# Altium footprint library footprints.PcbLib: 70 footprints (part 3 of 5)
Each footprint in its own frame and in the unit in brackets; x right, y up, seen from the top. Pads: shape width x height; smd on the part's side, far side on the other; paste and mask are expansions set on the pad; w line width, h text height; cw(c..) or ccw(c..) is an arc to the next point about the centre after c.
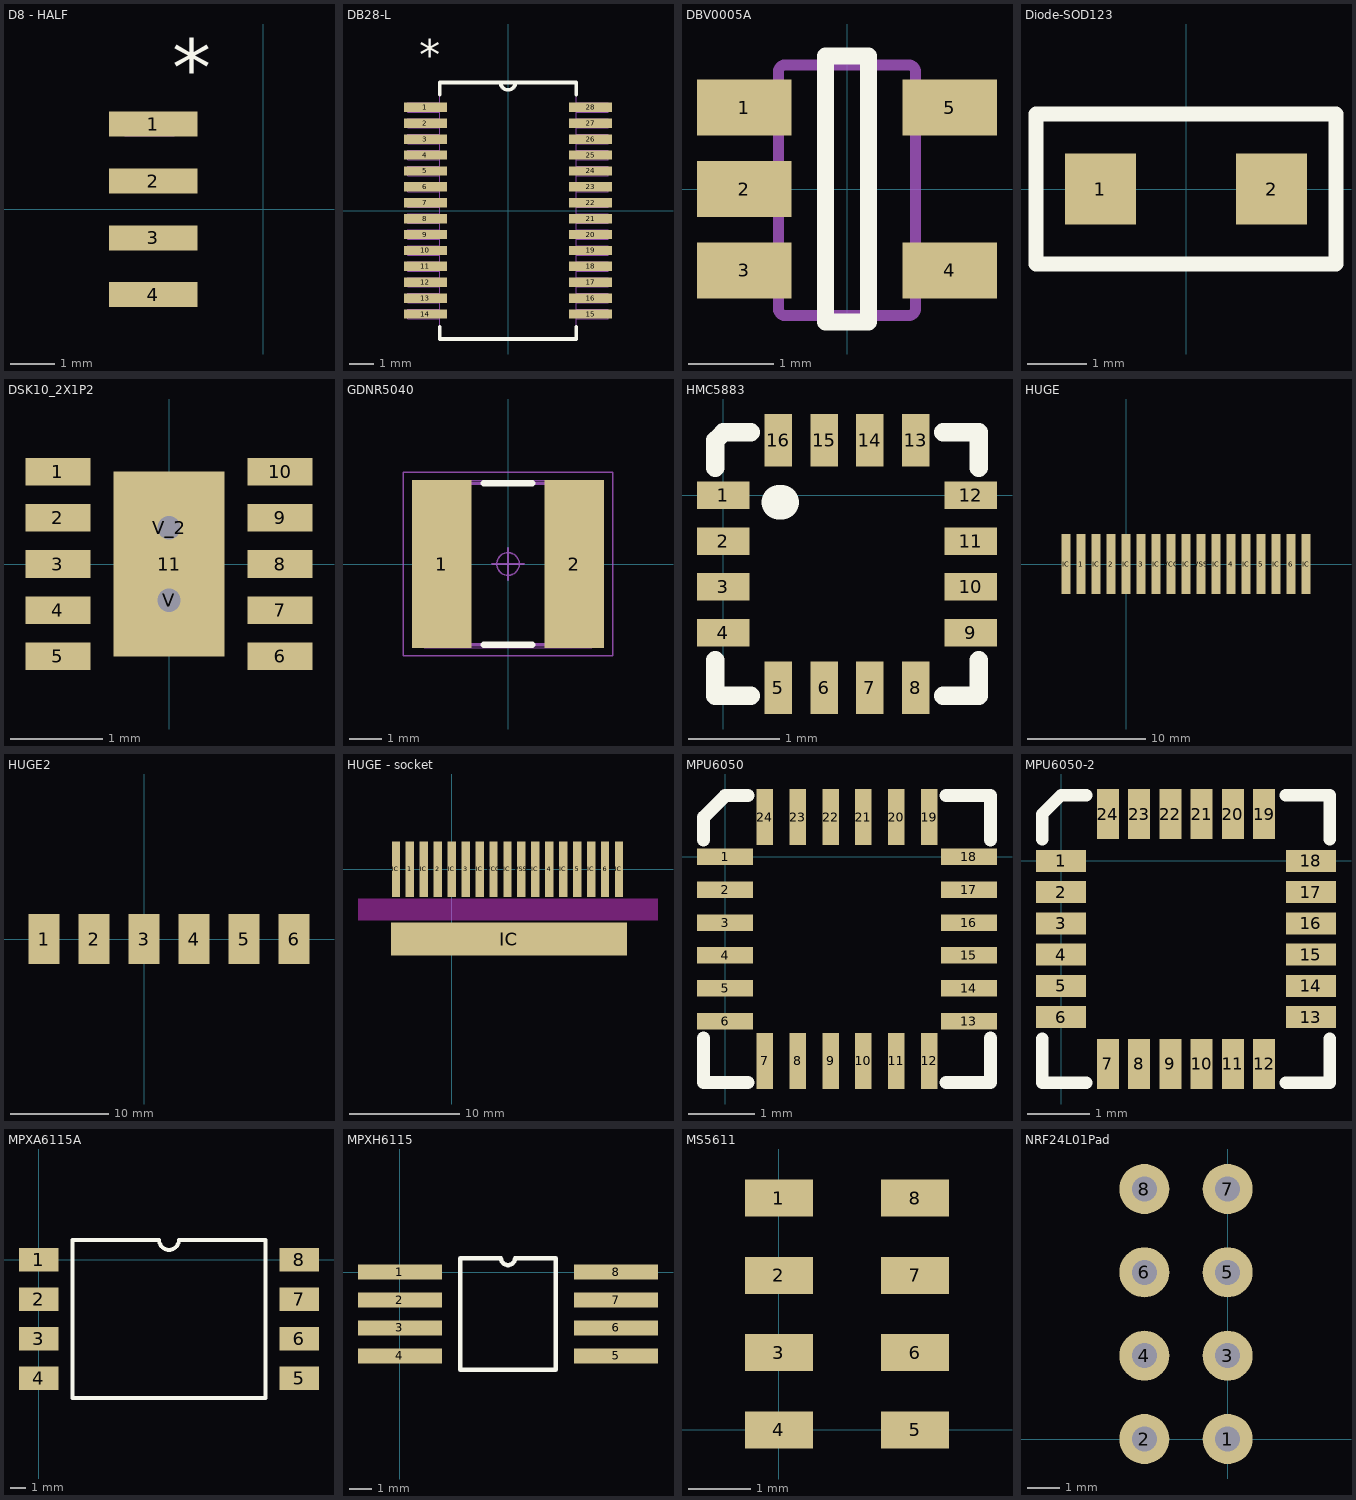
[diagram p2: the footprints below, top view; thin cyan lines are the x and y axes]

## D8 - HALF [mil]
pads (4):
  rect 78x22 smd: 1(-97,75) 2(-97,25) 3(-97,-25) 4(-97,-75)
Top Overlay:
  text "*" at -80,100 h50
Mechanical 1:
  lines w0: -78.5,-85 -122,-85 -122,-65 -78.5,-65 ; -78.5,-35 -122,-35 -122,-15 -78.5,-15 ; -78.5,15 -122,15 -122,35 -78.5,35 ; -78.5,65 -122,65 -122,85 -78.5,85

## DB28-L [mil]
pads (28):
  rect 69x15 smd: 1(-133,166.34) 2(-133,140.75) 3(-133,115.16) 4(-133,89.57) 5(-133,63.98) 6(-133,38.39) 7(-133,12.8) 8(-133,-12.8) 9(-133,-38.39) 10(-133,-63.98) 11(-133,-89.57) 12(-133,-115.16) 13(-133,-140.75) 14(-133,-166.34) 15(133,-166.34) 16(133,-140.75) 17(133,-115.16) 18(133,-89.57) 19(133,-63.98) 20(133,-38.39) 21(133,-12.8) 22(133,12.8) 23(133,38.39) 24(133,63.98) 25(133,89.57) 26(133,115.16) 27(133,140.75) 28(133,166.34)
Top Overlay:
  lines w6: -110,-186.94 -110,-206.5 110,-206.5 110,-186.94 ; -110,186.94 -110,206.5 110,206.5 110,186.94 ; -12,206.5 ccw(c0,206.5) 12,206.5
  text "*" at -143,226.34 h50
Mechanical 1:
  lines w0: -12,206.5 ccw(c0,206.5) 12,206.5 ; -161.5,-173.84 -110,-173.84 -110,-158.84 -161.5,-158.84 -161.5,-173.84 ; -161.5,-148.25 -110,-148.25 -110,-133.25 -161.5,-133.25 -161.5,-148.25 ; -161.5,-122.66 -110,-122.66 -110,-107.66 -161.5,-107.66 -161.5,-122.66 ; -161.5,-97.07 -110,-97.07 -110,-82.07 -161.5,-82.07 -161.5,-97.07 ; -161.5,-71.48 -110,-71.48 -110,-56.48 -161.5,-56.48 -161.5,-71.48 ; -161.5,-45.89 -110,-45.89 -110,-30.89 -161.5,-30.89 -161.5,-45.89 ; -161.5,-20.3 -110,-20.3 -110,-5.3 -161.5,-5.3 -161.5,-20.3 ; -161.5,5.3 -110,5.3 -110,20.3 -161.5,20.3 -161.5,5.3 ; -161.5,30.89 -110,30.89 -110,45.89 -161.5,45.89 -161.5,30.89 ; -161.5,56.48 -110,56.48 -110,71.48 -161.5,71.48 -161.5,56.48 ; -161.5,82.07 -110,82.07 -110,97.07 -161.5,97.07 -161.5,82.07 ; -161.5,107.66 -110,107.66 -110,122.66 -161.5,122.66 -161.5,107.66 ; -161.5,133.25 -110,133.25 -110,148.25 -161.5,148.25 -161.5,133.25 ; -161.5,158.84 -110,158.84 -110,173.84 -161.5,173.84 -161.5,158.84 ; -110,-206.5 -110,206.5 110,206.5 110,-206.5 -110,-206.5 ; 110,-173.84 161.5,-173.84 161.5,-158.84 110,-158.84 110,-173.84 ; 110,-148.25 161.5,-148.25 161.5,-133.25 110,-133.25 110,-148.25 ; 110,-122.66 161.5,-122.66 161.5,-107.66 110,-107.66 110,-122.66 ; 110,-97.07 161.5,-97.07 161.5,-82.07 110,-82.07 110,-97.07 ; 110,-71.48 161.5,-71.48 161.5,-56.48 110,-56.48 110,-71.48 ; 110,-45.89 161.5,-45.89 161.5,-30.89 110,-30.89 110,-45.89 ; 110,-20.3 161.5,-20.3 161.5,-5.3 110,-5.3 110,-20.3 ; 110,5.3 161.5,5.3 161.5,20.3 110,20.3 110,5.3 ; 110,30.89 161.5,30.89 161.5,45.89 110,45.89 110,30.89 ; 110,56.48 161.5,56.48 161.5,71.48 110,71.48 110,56.48 ; 110,82.07 161.5,82.07 161.5,97.07 110,97.07 110,82.07 ; 110,107.66 161.5,107.66 161.5,122.66 110,122.66 110,107.66 ; 110,133.25 161.5,133.25 161.5,148.25 110,148.25 110,133.25 ; 110,158.84 161.5,158.84 161.5,173.84 110,173.84 110,158.84
  text "*" at -143,226.34 h50

## DBV0005A [mm]
pads (5):
  rect 1.1x0.65 smd paste-0.102 mask+0.051: 1(-1.2,0.95) 2(-1.2,0) 3(-1.2,-0.95) 4(1.2,-0.95) 5(1.2,0.95)
Top Overlay:
  lines w0.2: -0.25,-1.55 0.25,-1.55 0.25,1.55 -0.25,1.55 -0.25,-1.55
Mechanical 1:
  lines w0.127: -0.801,1.371 cw(c-0.725,1.37) -0.725,1.446 ; -0.801,1.37 -0.801,-1.399 -0.801,-1.4 ccw(c-0.725,-1.399) -0.725,-1.475 ; -0.801,1.37 -0.801,1.371 ; -0.725,-1.475 -0.725,-1.475 ; -0.725,-1.475 0.723,-1.475 0.724,-1.475 ccw(c0.723,-1.399) 0.799,-1.4 0.799,-1.399 0.799,1.37 ; -0.725,1.446 0.723,1.446 0.724,1.446 cw(c0.723,1.37) 0.799,1.371 ; -0.725,1.446 -0.725,1.446 ; 0.799,1.37 0.799,1.371 ; -1.423,-1.167 -1.199,-1.167 -1.105,-1.167 -1.088,-1.167 -0.835,-1.167 -0.801,-1.167 -0.801,-0.767 -0.835,-0.767 -1.088,-0.767 -1.105,-0.767 -1.199,-0.767 -1.423,-0.767 -1.423,-1.167 ; -1.423,-0.215 -1.199,-0.215 -1.105,-0.215 -1.088,-0.215 -0.835,-0.215 -0.801,-0.215 -0.801,0.186 -0.835,0.186 -1.088,0.186 -1.105,0.186 -1.199,0.186 -1.423,0.186 -1.423,-0.215 ; -1.423,0.738 -1.199,0.738 -1.105,0.738 -1.088,0.738 -0.835,0.738 -0.801,0.738 -0.801,1.138 -0.835,1.138 -1.088,1.138 -1.105,1.138 -1.199,1.138 -1.423,1.138 -1.423,0.738 ; 0.799,-1.167 0.799,-0.767 0.834,-0.767 1.087,-0.767 1.103,-0.767 1.198,-0.767 1.422,-0.767 1.422,-1.167 1.198,-1.167 1.103,-1.167 1.087,-1.167 0.834,-1.167 0.799,-1.167 ; 0.799,0.738 0.799,1.138 0.834,1.138 1.087,1.138 1.103,1.138 1.198,1.138 1.422,1.138 1.422,0.738 1.198,0.738 1.103,0.738 1.087,0.738 0.834,0.738 0.799,0.738

## Diode-SOD123 [mm]
pads (2):
  rect 1.2x1.2 smd: 1(-1.45,0) 2(1.45,0)
Top Overlay:
  lines w0.254: -2.54,-1.27 2.54,-1.27 2.54,1.27 -2.54,1.27 -2.54,-1.27

## DSK10_2X1P2 [mm]
pads (13):
  rect 0.704x0.3 smd paste-0.15: 1(-1.202,1) 2(-1.202,0.5) 3(-1.202,0) 4(-1.202,-0.5) 5(-1.202,-1) 6(1.202,-1) 7(1.202,-0.5) 8(1.202,0) 9(1.202,0.5) 10(1.202,1)
  rect 1.2x2 smd paste-0.987 mask-0.991: 11(0,0)
  round 0.508 / inner round 1.524 / far side round 0.508 hole 0.254: V(0,-0.394) V_2(0,0.394)
Top Paste:
  region: 0.525,-0.494 0.241,-0.494 0.1,-0.635 0.1,-0.925 0.525,-0.925
  region: 0.525,0.294 0.241,0.294 0.1,0.152 0.1,-0.152 0.241,-0.294 0.525,-0.294
  region: 0.525,0.925 0.1,0.925 0.1,0.635 0.241,0.494 0.525,0.494
  region: -0.241,-0.494 -0.525,-0.494 -0.525,-0.925 -0.1,-0.925 -0.1,-0.635
  region: -0.241,0.294 -0.525,0.294 -0.525,-0.294 -0.241,-0.294 -0.1,-0.152 -0.1,0.152
  region: -0.1,0.925 -0.525,0.925 -0.525,0.494 -0.241,0.494 -0.1,0.635
  region: 1.529,1.125 0.875,1.125 0.875,0.875 1.529,0.875
  region: 1.529,0.625 0.875,0.625 0.875,0.375 1.529,0.375
  region: 1.529,0.125 0.875,0.125 0.875,-0.125 1.529,-0.125
  region: 1.529,-0.375 0.875,-0.375 0.875,-0.625 1.529,-0.625
  region: 1.529,-0.875 0.875,-0.875 0.875,-1.125 1.529,-1.125
  region: -0.875,-0.875 -1.529,-0.875 -1.529,-1.125 -0.875,-1.125
  region: -0.875,-0.375 -1.529,-0.375 -1.529,-0.625 -0.875,-0.625
  region: -0.875,0.125 -1.529,0.125 -1.529,-0.125 -0.875,-0.125
  region: -0.875,0.625 -1.529,0.625 -1.529,0.375 -0.875,0.375
  region: -0.875,1.125 -1.529,1.125 -1.529,0.875 -0.875,0.875
Top Solder:
  region: 0,-1
  region: 0,1
  region: 0.2,-1.064 0.2,1.064 0.663,1.064 0.663,-1.064
  region: -0.663,-1.064 -0.663,1.064 -0.2,1.064 -0.2,-1.064
  region: -0.663,-1.064 -0.663,-0.594 0.663,-0.594 0.663,-1.064
  region: -0.663,-0.194 -0.663,0.194 0.663,0.194 0.663,-0.194
  region: -0.663,0.594 -0.663,1.064 0.663,1.064 0.663,0.594
  region: 1.624,1.22 0.78,1.22 0.78,0.78 1.624,0.78
  region: 1.624,0.72 0.78,0.72 0.78,0.28 1.624,0.28
  region: 1.624,0.22 0.78,0.22 0.78,-0.22 1.624,-0.22
  region: 1.624,-0.28 0.78,-0.28 0.78,-0.72 1.624,-0.72
  region: 1.624,-0.78 0.78,-0.78 0.78,-1.22 1.624,-1.22
  region: -0.78,-0.78 -1.624,-0.78 -1.624,-1.22 -0.78,-1.22
  region: -0.78,-0.28 -1.624,-0.28 -1.624,-0.72 -0.78,-0.72
  region: -0.78,0.22 -1.624,0.22 -1.624,-0.22 -0.78,-0.22
  region: -0.78,0.72 -1.624,0.72 -1.624,0.28 -0.78,0.28
  region: -0.78,1.22 -1.624,1.22 -1.624,0.78 -0.78,0.78

## GDNR5040 [mm]
pads (2):
  rect 1.85x5.2 smd: 1(-2.05,0) 2(2.05,0)
Top Overlay:
  lines w0.2: -0.75,-2.5 0.75,-2.5 ; -0.75,2.5 0.75,2.5
Mechanical 15:
  lines w0.1: -2.5,-2.5 2.5,-2.5 2.5,2.5 -2.5,2.5 -2.5,-2.5
Mechanical 16:
  circle w0.05: c0,0 r0.35
  lines w0.001: -2.6,-2.6 2.6,-2.6 2.6,2.6 -2.6,2.6 -2.6,-2.6
  lines w0.05: -0.5,0 0.5,0 ; 0,-0.5 0,0.5 ; -3.25,-2.85 -3.25,2.85 3.25,2.85 3.25,-2.85 -3.25,-2.85

## HMC5883 [mm]
pads (16):
  rect 0.575x0.3 smd: 1(0,0) 2(0,-0.5) 3(0,-1) 4(0,-1.5) 9(2.7,-1.5) 10(2.7,-1) 11(2.7,-0.5) 12(2.7,0)
  rect 0.3x0.575 smd: 5(0.6,-2.1) 6(1.1,-2.1) 7(1.6,-2.1) 8(2.1,-2.1) 13(2.1,0.6) 14(1.6,0.6) 15(1.1,0.6) 16(0.6,0.6)
Top Overlay:
  lines w0.2: -0.088,-1.8 -0.088,-2.187 0.3,-2.187 ; -0.088,0.3 -0.088,0.6 0,0.687 0.3,0.687 ; 2.4,-2.187 2.787,-2.187 2.787,-1.8 ; 2.4,0.687 2.787,0.687 2.787,0.3
  lines w0.381: 0.61,-0.076 0.635,-0.076

## HUGE [mil]
pads (17):
  rect 30x200 smd: 1(-150,0) 2(-50,0) 3(50,0) 4(350,0) 5(450,0) 6(550,0) IC(-200,0) IC(-100,0) IC(0,0) IC(100,0) IC(200,0) IC(300,0) IC(400,0) IC(500,0) IC(600,0) VCC(150,0) VSS(250,0)

## HUGE2 [mm]
pads (6):
  rect 3.175x5.08 smd: 1(-10.16,0) 2(-5.08,0) 3(0,0) 4(5.08,0) 5(10.16,0) 6(15.24,0)

## HUGE - socket [mil]
pads (18):
  rect 30x200 smd: 1(-150,0) 2(-50,0) 3(50,0) 4(350,0) 5(450,0) 6(550,0) IC(-200,0) IC(-100,0) IC(0,0) IC(100,0) IC(200,0) IC(300,0) IC(400,0) IC(500,0) IC(600,0) VCC(150,0) VSS(250,0)
  rect 846.46x118.11 smd: IC(205,-250)
Keep-Out Layer:
  rectangle: -336.22,-183.74 740,-105

## MPU6050 [mm]
pads (24):
  rect 0.85x0.25 smd: 1(0,0) 2(0,-0.5) 3(0,-1) 4(0,-1.5) 5(0,-2) 6(0,-2.5) 13(3.7,-2.5) 14(3.7,-2) 15(3.7,-1.5) 16(3.7,-1) 17(3.7,-0.5) 18(3.7,0)
  rect 0.25x0.85 smd: 7(0.6,-3.1) 8(1.1,-3.1) 9(1.6,-3.1) 10(2.1,-3.1) 11(2.6,-3.1) 12(3.1,-3.1) 19(3.1,0.6) 20(2.6,0.6) 21(2.1,0.6) 22(1.6,0.6) 23(1.1,0.6) 24(0.6,0.6)
Top Overlay:
  lines w0.2: -0.325,-2.75 -0.325,-3.425 0.35,-3.425 ; -0.325,0.25 -0.325,0.6 0,0.925 0.35,0.925 ; 3.35,-3.425 4.025,-3.425 4.025,-2.75 ; 3.35,0.925 4.025,0.925 4.025,0.25

## MPU6050-2 [mm]
pads (24):
  rect 0.8x0.35 smd: 1(0,0) 2(0,-0.5) 3(0,-1) 4(0,-1.5) 5(0,-2) 6(0,-2.5) 13(4,-2.5) 14(4,-2) 15(4,-1.5) 16(4,-1) 17(4,-0.5) 18(4,0)
  rect 0.35x0.8 smd: 7(0.75,-3.25) 8(1.25,-3.25) 9(1.75,-3.25) 10(2.25,-3.25) 11(2.75,-3.25) 12(3.25,-3.25) 19(3.25,0.75) 20(2.75,0.75) 21(2.25,0.75) 22(1.75,0.75) 23(1.25,0.75) 24(0.75,0.75)
Top Overlay:
  lines w0.2: -0.3,-2.85 -0.3,-3.55 0.4,-3.55 ; -0.3,0.35 -0.3,0.75 0,1.05 0.4,1.05 ; 3.6,-3.55 4.3,-3.55 4.3,-2.85 ; 3.6,1.05 4.3,1.05 4.3,0.35

## MPXA6115A [mil]
pads (8):
  rect 100x60 smd: 1(0,0) 2(0,-100) 3(0,-200) 4(0,-300) 5(660,-300) 6(660,-200) 7(660,-100) 8(660,0)
Top Overlay:
  lines w10: 85,-350 85,50 305,50 ccw(c330,50) 355,50 575,50 575,-350 85,-350

## MPXH6115 [mm]
pads (8):
  rect 3.81x0.69 smd: 1(0,0) 2(0,-1.27) 3(0,-2.54) 4(0,-3.81) 5(9.83,-3.81) 6(9.83,-2.54) 7(9.83,-1.27) 8(9.83,0)
Top Overlay:
  lines w0.2: 2.74,-4.445 2.74,0.635 4.597,0.635 ccw(c4.915,0.635) 5.232,0.635 7.09,0.635 7.09,-4.445 2.74,-4.445

## MS5611 [mm]
pads (8):
  rect 1.1x0.6 smd: 1(0,3.75) 2(0,2.5) 3(0,1.25) 4(0,0) 5(2.2,0) 6(2.2,1.25) 7(2.2,2.5) 8(2.2,3.75)

## NRF24L01Pad [mil]
pads (8):
  round 60 hole 30: 1(0,0) 2(-100,0) 3(0,100) 4(-100,100) 5(0,200) 6(-100,200) 7(0,300) 8(-100,300)